# EAGLE library part CARDUINO_PINHD-1X6 (library lightuino3.lbrlightuino3.1)
PIN HEADER
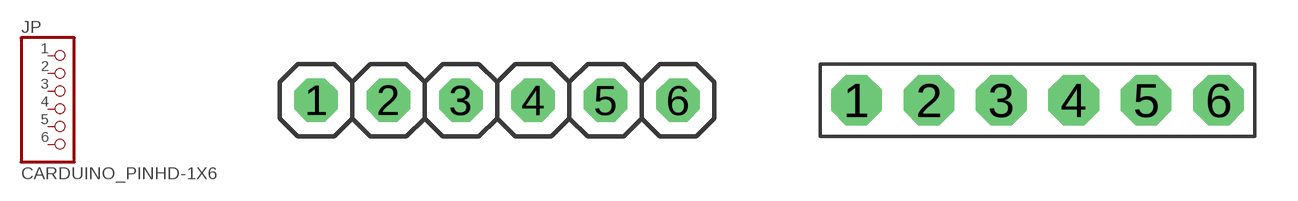
[diagram p2: symbol with the pads of CARDUINO_1X06; footprints CARDUINO_1X06, CARDUINO_1X06-BIG]

Designator prefix JP

## CARDUINO_PINHD-1X6  [CARDUINO_1X06]
1  1  pas
2  2  pas
3  3  pas
4  4  pas
5  5  pas
6  6  pas

## CARDUINO_PINHD-1X6B  [CARDUINO_1X06-BIG]
Pads as for CARDUINO_1X06

## CARDUINO_PINHD-1X6CB  [CARDUINO_1X06-CLEANBIG]
Pads as for CARDUINO_1X06

## CARDUINO_PINHD-1X6CLEAN  [CARDUINO_1X06-CLEAN]
Pads as for CARDUINO_1X06

## Footprint CARDUINO_1X06 (pad centres in mm)
PIN HEADER
drill 1.016 octagon: 1 -6.35,0; 2 -3.81,0; 3 -1.27,0; 4 1.27,0; 5 3.81,0; 6 6.35,0

## Footprint CARDUINO_1X06-BIG (pad centres in mm)
drill 1.016 pad 1.778 octagon: 1 -6.35,0; 2 -3.81,0; 3 -1.27,0; 4 1.27,0; 5 3.81,0; 6 6.35,0

## Footprint CARDUINO_1X06-CLEANBIG (pad centres in mm)
drill 1.016 pad 1.778 octagon: 1 -6.35,0; 2 -3.81,0; 3 -1.27,0; 4 1.27,0; 5 3.81,0; 6 6.35,0

## Footprint CARDUINO_1X06-CLEAN (pad centres in mm)
drill 1.016 octagon: 1 -6.35,0; 2 -3.81,0; 3 -1.27,0; 4 1.27,0; 5 3.81,0; 6 6.35,0